# EAGLE library part EK-LM4F232 (library chlk_bot)
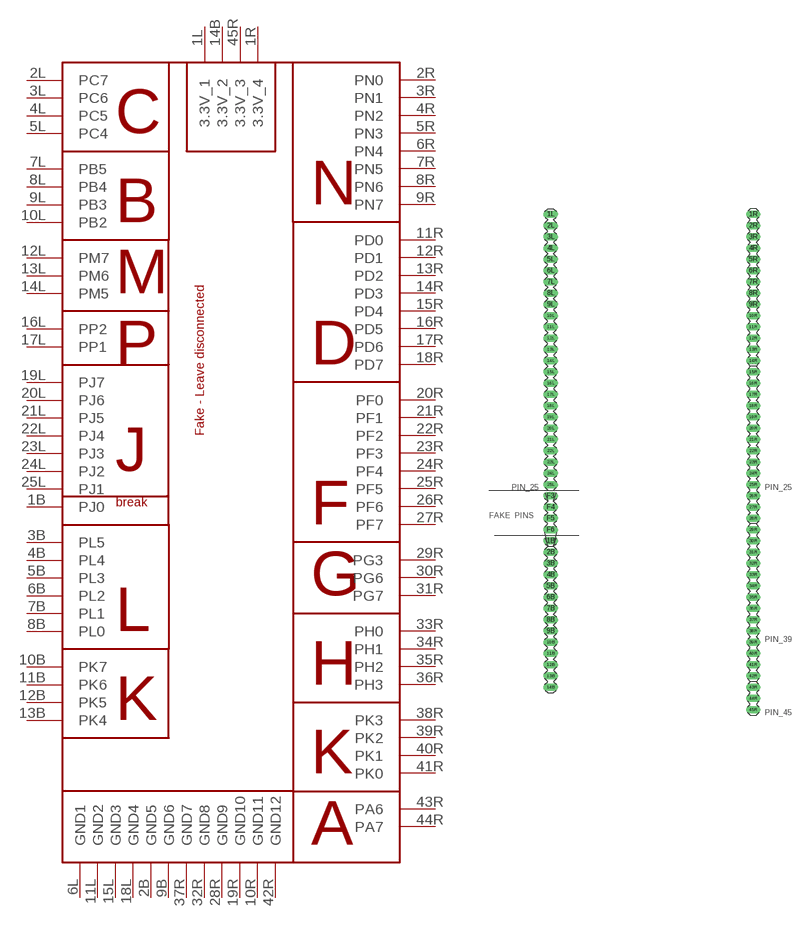
[diagram p13: symbol with the pads of EK-LM4F232; footprint EK-LM4F232]

Designator prefix -

## EK-LM4F232  [EK-LM4F232]
1B  PJ0
1L  3.3V_1
1R  3.3V_4
2B  GND5
2L  PC7
2R  PN0
3B  PL5
3L  PC6
3R  PN1
4B  PL4
4L  PC5
4R  PN2
5B  PL3
5L  PC4
5R  PN3
6B  PL2
6L  GND1
6R  PN4
7B  PL1
7L  PB5
7R  PN5
8B  PL0
8L  PB4
8R  PN6
9B  GND6
9L  PB3
9R  PN7
10B  PK7
10L  PB2
10R  GND11
11B  PK6
11L  GND2
11R  PD0
12B  PK5
12L  PM7
12R  PD1
13B  PK4
13L  PM6
13R  PD2
14B  3.3V_2
14L  PM5
14R  PD3
15L  GND3
15R  PD4
16L  PP2
16R  PD5
17L  PP1
17R  PD6
18L  GND4
18R  PD7
19L  PJ7
19R  GND10
20L  PJ6
20R  PF0
21L  PJ5
21R  PF1
22L  PJ4
22R  PF2
23L  PJ3
23R  PF3
24L  PJ2
24R  PF4
25L  PJ1
25R  PF5
26R  PF6
27R  PF7
28R  GND9
29R  PG3
30R  PG6
31R  PG7
32R  GND8
33R  PH0
34R  PH1
35R  PH2
36R  PH3
37R  GND7
38R  PK3
39R  PK2
40R  PK1
41R  PK0
42R  GND12
43R  PA6
44R  PA7
45R  3.3V_3
F3  F5  nc
F4  F4  nc
F5  F3  nc
F6  F2  nc

## Footprint EK-LM4F232 (pad centres in mm)
drill 1.118 long: 1B -45.72,-73.66; 1L -45.72,0; 1R 0,0; 2B -45.72,-76.2; 2L -45.72,-2.54; 2R 0,-2.54; 3B -45.72,-78.74; 3L -45.72,-5.08; 3R 0,-5.08; 4B -45.72,-81.28; 4L -45.72,-7.62; 4R 0,-7.62; 5B -45.72,-83.82; 5L -45.72,-10.16; 5R 0,-10.16; 6B -45.72,-86.36; 6L -45.72,-12.7; 6R 0,-12.7; 7B -45.72,-88.9; 7L -45.72,-15.24; 7R 0,-15.24; 8B -45.72,-91.44; 8L -45.72,-17.78; 8R 0,-17.78; 9B -45.72,-93.98; 9L -45.72,-20.32; 9R 0,-20.32; 10B -45.72,-96.52; 10L -45.72,-22.86; 10R 0,-22.86; 11B -45.72,-99.06; 11L -45.72,-25.4; 11R 0,-25.4; 12B -45.72,-101.6; 12L -45.72,-27.94; 12R 0,-27.94; 13B -45.72,-104.14; 13L -45.72,-30.48; 13R 0,-30.48; 14B -45.72,-106.68; 14L -45.72,-33.02; 14R 0,-33.02; 15L -45.72,-35.56; 15R 0,-35.56; 16L -45.72,-38.1; 16R 0,-38.1; 17L -45.72,-40.64; 17R 0,-40.64; 18L -45.72,-43.18; 18R 0,-43.18; 19L -45.72,-45.72; 19R 0,-45.72; 20L -45.72,-48.26; 20R 0,-48.26; 21L -45.72,-50.8; 21R 0,-50.8; 22L -45.72,-53.34; 22R 0,-53.34; 23L -45.72,-55.88; 23R 0,-55.88; 24L -45.72,-58.42; 24R 0,-58.42; 25L -45.72,-60.96; 25R 0,-60.96; 26R 0,-63.5; 27R 0,-66.04; 28R 0,-68.58; 29R 0,-71.12; 30R 0,-73.66; 31R 0,-76.2; 32R 0,-78.74; 33R 0,-81.28; 34R 0,-83.82; 35R 0,-86.36; 36R 0,-88.9; 37R 0,-91.44; 38R 0,-93.98; 39R 0,-96.52; 40R 0,-99.06; 41R 0,-101.6; 42R 0,-104.14; 43R 0,-106.68; 44R 0,-109.22; 45R 0,-111.76; F3 -45.72,-63.5; F4 -45.72,-66.04; F5 -45.72,-68.58; F6 -45.72,-71.12